# Altium footprint library PKY_LIB.PcbLib: 59 footprints (part 4 of 5)
Each footprint in its own frame and in the unit in brackets; x right, y up, seen from the top. Pads: shape width x height; smd on the part's side, far side on the other; paste and mask are expansions set on the pad; w line width, h text height; cw(c..) or ccw(c..) is an arc to the next point about the centre after c.
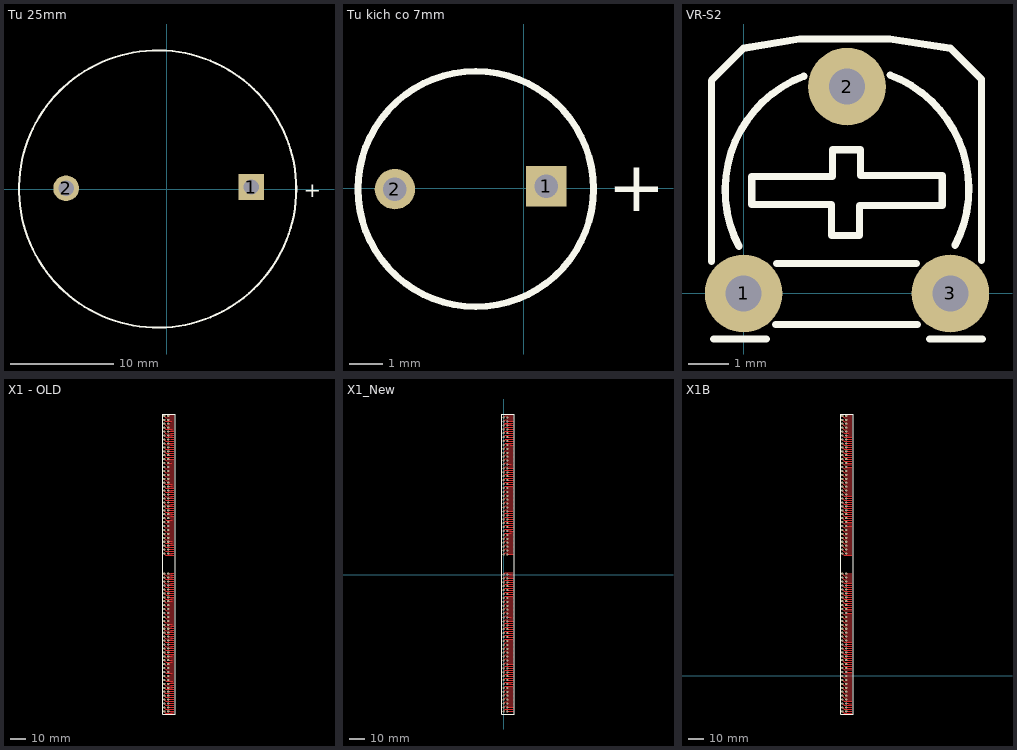
[diagram p3: the footprints below, top view; thin cyan lines are the x and y axes]

## Tu 25mm [mm]
pads (2):
  rect 2.5x2.5 hole 1.5: 1(8.247,0.191)
  round 2.5 hole 1.5: 2(-9.795,0.069)
Top Overlay:
  circle w0.2: c-0.882,0 r13.5
  text "+" at 13.332,-0.789 h1.5

## Tu kich co 7mm [mm]
pads (2):
  rect 1.2x1.2 hole 0.7: 1(0.671,0.067)
  round 1.2 hole 0.7: 2(-3.825,-0.025)
Top Overlay:
  circle w0.2: c-1.423,-0.02 r3.5
  text "+" at 2.495,-0.677 h1.5

## VR-S2 [mil] "Resistor Variable"
height 200
pads (3):
  round 75 hole 35: 1(0,0) 2(100,200) 3(200,0)
Top Overlay:
  lines w7: -31,31 -31,206 0,237 54,246 141.5,246 200,237 230,207 230,32 ; -29,-44 22,-44 ; -4.35,45.34 cw(c100,100) 58.1,210.1 ; 8,113 8,86 85,86 85,56 112,56 112,85 192,85 192,114 113,114 113,139 86,139 86,113 9,113 ; 31,-30 168,-30 ; 32,29 167,29 ; 141.9,211.1 cw(c100,101) 204.35,46.34 ; 180,-44 231,-44

## X1 - OLD [mm]
height 2
pads (144):
  oct 1.5x1.3 hole 1: 1(134.104,-244.479) 2(134.104,-241.939) 3(134.104,-239.399) 4(134.104,-236.859) 5(134.104,-234.319) 6(134.104,-231.779) 7(134.104,-229.239) 8(134.104,-226.699) 9(134.104,-224.159) 10(134.104,-221.619) 11(134.104,-219.079) 12(134.104,-216.539) 13(134.104,-213.999) 14(134.104,-211.459) 15(134.104,-208.919) 16(134.104,-206.379) 17(134.104,-203.839) 18(134.104,-201.299) 19(134.104,-198.759) 20(134.104,-196.219) 21(134.104,-193.679) 22(134.104,-191.139) 23(134.104,-188.599) 24(134.104,-186.059) 25(134.104,-183.519) 26(134.104,-180.979) 27(134.104,-178.439) 28(134.104,-175.899) 29(134.104,-173.359) 30(134.104,-170.819) 31(134.104,-168.279) 32(134.104,-165.739) 33(134.104,-163.199) 34(134.104,-160.659) 35(134.104,-158.119) 36(134.104,-155.579) 37(134.104,-142.579) 38(134.104,-140.039) 39(134.104,-137.499) 40(134.104,-134.959) 41(134.104,-132.419) 42(134.104,-129.879) 43(134.104,-127.339) 44(134.104,-124.799) 45(134.104,-122.259) 46(134.104,-119.719) 47(134.104,-117.179) 48(134.104,-114.639) 49(134.104,-112.099) 50(134.104,-109.559) 51(134.104,-107.019) 52(134.104,-104.479) 53(134.104,-101.939) 54(134.104,-99.399) 55(134.104,-96.859) 56(134.104,-94.319) 57(134.104,-91.779) 58(134.104,-89.239) 59(134.104,-86.699) 60(134.104,-84.159) 61(134.104,-81.619) 62(134.104,-79.079) 63(134.104,-76.539) 64(134.104,-73.999) 65(134.104,-71.459) 66(134.104,-68.919) 67(134.104,-66.379) 68(134.104,-63.839) 69(134.104,-61.299) 70(134.104,-58.759) 71(134.104,-56.219) 72(134.104,-53.679) B1(136.644,-244.479) B2(136.644,-241.939) B3(136.644,-239.399) B4(136.644,-236.859) B5(136.644,-234.319) B6(136.644,-231.779) B7(136.644,-229.239) B8(136.644,-226.699) B9(136.644,-224.159) B10(136.644,-221.619) B11(136.644,-219.079) B12(136.644,-216.539) B13(136.644,-213.999) B14(136.644,-211.459) B15(136.644,-208.919) B16(136.644,-206.379) B17(136.644,-203.839) B18(136.644,-201.299) B19(136.644,-198.759) B20(136.644,-196.219) B21(136.644,-193.679) B22(136.644,-191.139) B23(136.644,-188.599) B24(136.644,-186.059) B25(136.644,-183.519) B26(136.644,-180.979) B27(136.644,-178.439) B28(136.644,-175.899) B29(136.644,-173.359) B30(136.644,-170.819) B31(136.644,-168.279) B32(136.644,-165.739) B33(136.644,-163.199) B34(136.644,-160.659) B35(136.644,-158.119) B36(136.644,-155.579) B37(136.644,-142.579) B38(136.644,-140.039) B39(136.644,-137.499) B40(136.644,-134.959) B41(136.644,-132.419) B42(136.644,-129.879) B43(136.644,-127.339) B44(136.644,-124.799) B45(136.644,-122.259) B46(136.644,-119.719) B47(136.644,-117.179) B48(136.644,-114.639) B49(136.644,-112.099) B50(136.644,-109.559) B51(136.644,-107.019) B52(136.644,-104.479) B53(136.644,-101.939) B54(136.644,-99.399) B55(136.644,-96.859) B56(136.644,-94.319) B57(136.644,-91.779) B58(136.644,-89.239) B59(136.644,-86.699) B60(136.644,-84.159) B61(136.644,-81.619) B62(136.644,-79.079) B63(136.644,-76.539) B64(136.644,-73.999) B65(136.644,-71.459) B66(136.644,-68.919) B67(136.644,-66.379) B68(136.644,-63.839) B69(136.644,-61.299) B70(136.644,-58.759) B71(136.644,-56.219) B72(136.644,-53.679)
Top Layer:
  lines w0.3: 133.769,-86.765 133.904,-86.9 134.85,-87.846 138.933,-87.846 139.015,-87.846 ; 133.772,-56.232 133.932,-56.392 134.853,-57.313 138.918,-57.313 139.018,-57.313 ; 133.805,-188.616 133.946,-188.757 134.886,-189.697 139.051,-189.697 ; 133.808,-158.083 133.974,-158.249 134.889,-159.164 139.054,-159.164 ; 133.812,-91.886 133.905,-91.979 134.893,-92.967 139.058,-92.967 ; 133.815,-61.353 133.933,-61.471 134.896,-62.434 139.061,-62.434 ; 133.817,-186.335 133.823,-186.341 134.898,-187.416 139.063,-187.416 ; 133.818,-96.851 134.899,-97.932 139.064,-97.932 ; 133.82,-155.802 134.104,-155.802 134.21,-155.802 135.291,-156.883 139.066,-156.883 ; 133.83,-94.57 134.104,-94.57 134.201,-94.57 135.282,-95.651 139.076,-95.651 ; 133.848,-193.737 133.947,-193.836 134.929,-194.818 138.929,-194.818 139.094,-194.818 ; 133.851,-163.204 133.975,-163.328 134.932,-164.285 139.046,-164.285 139.097,-164.285 ; 133.854,-198.702 134.008,-198.856 134.935,-199.783 138.918,-199.783 139.1,-199.783 ; 133.86,-191.456 134.941,-192.537 139.106,-192.537 ; 133.861,-101.972 133.966,-102.077 134.942,-103.053 136.644,-103.053 139.107,-103.053 ; 133.863,-160.923 134.944,-162.004 139.109,-162.004 ; 133.866,-196.421 133.884,-196.439 134.947,-197.502 139.05,-197.502 139.112,-197.502 ; 133.897,-203.823 134.009,-203.935 134.978,-204.904 138.279,-204.904 138.931,-204.904 139.143,-204.904 ; 133.909,-201.542 134.99,-202.623 139.155,-202.623 ; 133.951,-66.284 134.075,-66.408 135.305,-67.638 139.105,-67.638 139.197,-67.638 ; 133.963,-64.003 135.044,-65.084 138.279,-65.084 138.289,-65.084 138.467,-65.084 139.209,-65.084 ; 133.976,-127.421 133.999,-127.444 135.057,-128.502 138.279,-128.502 139.222,-128.502 ; 133.987,-168.135 134.118,-168.266 134.131,-168.279 135.341,-169.489 139.233,-169.489 ; 133.988,-125.14 134.847,-125.999 139.234,-125.999 ; 133.994,-71.405 134.076,-71.487 135.075,-72.486 139.056,-72.486 139.24,-72.486 ; 133.999,-165.854 135.08,-166.935 139.245,-166.935 ; 134,-76.37 134.137,-76.507 135.394,-77.764 139.246,-77.764 ; 134.006,-69.124 135.087,-70.205 139.252,-70.205 ; 134.012,-229.272 135.093,-230.353 139.258,-230.353 ; 134.012,-74.089 134.013,-74.09 135.093,-75.17 139.209,-75.17 139.258,-75.17 ; 134.019,-132.542 135.1,-133.623 139.237,-133.623 139.265,-133.623 ; 134.021,-107.009 135.102,-108.09 139.267,-108.09 ; 134.024,-226.991 134.883,-227.85 139.27,-227.85 ; 134.025,-137.507 134.061,-137.543 135.106,-138.588 139.271,-138.588 ; 134.03,-173.256 135.111,-174.337 139.276,-174.337 ; 134.031,-130.261 134.772,-131.002 139.277,-131.002 ; 134.033,-104.728 135.114,-105.809 139.279,-105.809 ; 134.036,-178.221 135.43,-179.615 139.282,-179.615 ; 134.037,-135.226 134.883,-136.072 139.283,-136.072 ; 134.042,-170.975 135.123,-172.056 139.288,-172.056 ; 134.043,-81.491 134.138,-81.586 135.368,-82.816 139.289,-82.816 ; 134.048,-175.94 135.129,-177.021 139.294,-177.021 ; 134.055,-234.393 135.136,-235.474 139.301,-235.474 ; 134.055,-79.21 135.136,-80.291 139.301,-80.291 ; 134.057,-208.86 134.11,-208.913 135.138,-209.941 138.279,-209.941 139.303,-209.941 ; 134.061,-239.358 134.103,-239.4 135.142,-240.439 139.307,-240.439 ; 134.064,-112.13 135.145,-113.211 139.31,-113.211 ; 134.067,-232.112 134.808,-232.853 139.313,-232.853 ; 134.068,-142.628 135.149,-143.709 139.314,-143.709 ; 134.069,-206.579 135.15,-207.66 138.889,-207.66 139.315,-207.66 ; 134.07,-117.095 135.151,-118.176 139.316,-118.176 ; 134.073,-237.077 134.919,-237.923 139.319,-237.923 ; 134.076,-109.849 135.157,-110.93 139.322,-110.93 ; 134.079,-183.342 134.18,-183.443 135.404,-184.667 139.325,-184.667 ; 134.08,-140.347 134.941,-141.208 139.326,-141.208 ; 134.082,-114.814 135.163,-115.895 139.328,-115.895 ; 134.091,-181.061 135.172,-182.142 139.337,-182.142 ; 134.1,-213.981 134.111,-213.992 135.181,-215.062 139.346,-215.062 ; 134.104,-244.479 135.185,-245.56 139.35,-245.56 ; 134.106,-218.946 135.187,-220.027 139.352,-220.027 ; 134.112,-211.7 135.193,-212.781 139.358,-212.781 ; 134.113,-122.216 134.13,-122.233 135.194,-123.297 139.233,-123.297 139.359,-123.297 ; 134.116,-242.198 134.977,-243.059 139.362,-243.059 ; 134.118,-216.665 135.199,-217.746 139.364,-217.746 ; 134.125,-119.935 135.206,-121.016 139.371,-121.016 ; 134.149,-224.067 135.23,-225.148 139.395,-225.148 ; 134.161,-221.786 135.242,-222.867 139.407,-222.867 ; 134.174,-53.951 135.036,-54.813 139.03,-54.813 ; 134.259,-99.691 135.118,-100.55 136.644,-100.55 136.654,-100.55 136.832,-100.55 139.119,-100.55 ; 134.279,-89.605 135.1,-90.426 139.07,-90.426 ; 134.296,-59.072 135.377,-60.153 139.073,-60.153 ; 134.357,-84.484 135.197,-85.324 138.705,-85.324 138.727,-85.324 139.027,-85.324 ; 136.342,-208.972 136.342,-208.919 136.342,-208.737 ; 136.349,-186.168 136.349,-186.059 136.349,-185.826 ; 136.442,-86.514 136.644,-86.514 138.968,-86.514 139.039,-86.514 ; 136.478,-188.365 136.644,-188.365 138.972,-188.365 139.075,-188.365 ; 136.485,-91.635 136.644,-91.635 139.014,-91.635 139.082,-91.635 ; 136.485,-56.279 136.644,-56.279 139.082,-56.279 ; 136.494,-229.425 136.494,-229.013 ; 136.521,-193.486 136.644,-193.486 139.118,-193.486 ; 136.521,-158.13 136.644,-158.13 138.97,-158.13 139.118,-158.13 ; 136.528,-142.59 136.644,-142.59 139.338,-142.59 ; 136.53,-96.818 136.644,-96.818 139.035,-96.818 139.127,-96.818 ; 136.548,-61.28 136.644,-61.28 138.279,-61.28 139.145,-61.28 ; 136.553,-101.906 136.644,-101.906 136.654,-101.906 136.832,-101.906 139.15,-101.906 ; 136.564,-244.125 136.564,-244.441 136.644,-244.441 136.722,-244.441 139.374,-244.441 ; 136.566,-198.669 136.644,-198.669 139.163,-198.669 ; 136.565,-84.165 136.644,-84.165 139.051,-84.165 ; 136.568,-53.694 136.644,-53.694 139.054,-53.694 ; 136.576,-94.338 136.644,-94.338 139.062,-94.338 ; 136.584,-163.131 136.644,-163.131 138.717,-163.131 139.181,-163.131 ; 136.589,-203.757 136.644,-203.757 139.186,-203.757 ; 136.601,-186.016 136.644,-186.016 139.087,-186.016 ; 136.604,-155.545 136.644,-155.545 139.09,-155.545 ; 136.608,-89.09 136.644,-89.09 138.279,-89.09 139.094,-89.09 ; 136.612,-196.189 136.644,-196.189 139.098,-196.189 ; 136.63,-58.696 136.644,-58.696 139.116,-58.696 ; 136.644,-190.941 139.13,-190.941 ; 136.649,-66.376 138.806,-66.376 138.944,-66.376 138.954,-66.376 139.131,-66.376 139.246,-66.376 ; 136.651,-81.534 139.248,-81.534 ; 136.657,-99.176 139.143,-99.176 ; 136.665,-76.52 139.262,-76.52 ; 136.666,-160.547 139.152,-160.547 ; 136.667,-127.299 138.279,-127.299 139.264,-127.299 ; 136.685,-168.227 139.282,-168.227 ; 136.687,-183.385 138.908,-183.385 139.284,-183.385 ; 136.693,-201.027 139.17,-201.027 139.179,-201.027 ; 136.692,-132.291 139.289,-132.291 ; 136.698,-137.256 139.295,-137.256 ; 136.701,-178.371 139.088,-178.371 139.298,-178.371 ; 136.703,-229.15 139.3,-229.15 ; 136.717,-71.399 139.314,-71.399 ; 136.723,-106.907 139.32,-106.907 ; 136.728,-234.142 139.325,-234.142 ; 136.731,-109.482 139.217,-109.482 ; 136.734,-239.107 139.331,-239.107 ; 136.747,-63.757 139.233,-63.757 ; 136.753,-173.25 139.35,-173.25 ; 136.755,-112.009 139.352,-112.009 ; 136.759,-208.758 139.356,-208.758 ; 136.762,-117.029 138.279,-117.029 138.826,-117.029 139.359,-117.029 ; 136.767,-211.333 139.253,-211.333 ; 136.772,-124.625 139.258,-124.625 ; 136.783,-165.608 138.842,-165.608 139.269,-165.608 ; 136.786,-122.188 138.717,-122.188 139.383,-122.188 ; 136.791,-213.86 139.388,-213.86 ; 136.798,-218.88 139.395,-218.88 ; 136.808,-226.476 139.294,-226.476 ; 136.815,-129.746 138.886,-129.746 139.301,-129.746 ; 136.82,-73.941 139.306,-73.941 ; 136.821,-134.711 139.307,-134.711 ; 136.822,-224.039 139.419,-224.039 ; 136.826,-170.705 139.312,-170.705 ; 136.835,-104.454 139.321,-104.454 ; 136.851,-231.597 139.337,-231.597 ; 136.856,-175.792 138.742,-175.792 139.342,-175.792 ; 136.857,-236.562 139.343,-236.562 ; 136.864,-139.832 138.763,-139.832 139.35,-139.832 ; 136.864,-78.965 139.35,-78.965 ; 136.871,-206.305 138.969,-206.305 139.357,-206.305 ; 136.878,-236.625 136.644,-236.859 136.898,-236.605 ; 136.884,-114.502 138.279,-114.502 139.296,-114.502 139.37,-114.502 ; 136.9,-241.683 139.386,-241.683 ; 136.9,-180.816 139.302,-180.816 139.317,-180.816 139.386,-180.816 ; 136.92,-216.353 139.406,-216.353 ; 136.927,-119.587 138.279,-119.587 138.915,-119.587 139.275,-119.587 139.413,-119.587 ; 136.963,-221.438 139.449,-221.438
  lines w0.8: 138.279,-245.522 140.279,-245.522 ; 138.279,-244.253 140.279,-244.253 ; 138.279,-242.984 140.279,-242.984 ; 138.279,-241.715 140.279,-241.715 ; 138.279,-240.446 140.279,-240.446 ; 138.279,-239.176 140.279,-239.176 ; 138.279,-237.907 140.279,-237.907 ; 138.279,-236.638 140.279,-236.638 ; 138.279,-235.369 140.279,-235.369 ; 138.279,-234.1 140.279,-234.1 ; 138.279,-232.831 140.279,-232.831 ; 138.279,-231.562 140.279,-231.562 ; 138.279,-230.293 140.279,-230.293 ; 138.279,-229.024 140.279,-229.024 ; 138.279,-227.755 140.279,-227.755 ; 138.279,-226.486 140.279,-226.486 ; 138.279,-225.217 140.279,-225.217 ; 138.279,-223.948 140.279,-223.948 ; 138.279,-222.679 140.279,-222.679 ; 138.279,-221.41 140.279,-221.41 ; 138.279,-220.141 140.279,-220.141 ; 138.279,-218.872 140.279,-218.872 ; 138.279,-217.603 140.279,-217.603 ; 138.279,-216.334 140.279,-216.334 ; 138.279,-215.065 140.279,-215.065 ; 138.279,-213.796 139.58,-213.796 140.279,-213.796 ; 138.279,-212.527 140.279,-212.527 ; 138.279,-211.258 139.253,-211.258 140.279,-211.258 ; 138.279,-209.989 138.289,-209.989 138.467,-209.989 139.362,-209.989 139.372,-209.989 139.54,-209.989 139.55,-209.989 139.842,-209.989 139.852,-209.989 140.02,-209.989 140.03,-209.989 140.279,-209.989 ; 138.279,-208.72 140.279,-208.72 ; 138.279,-207.451 138.889,-207.451 138.899,-207.451 139.076,-207.451 139.55,-207.451 139.56,-207.451 139.728,-207.451 139.738,-207.451 140.279,-207.451 ; 138.279,-206.182 138.969,-206.182 138.979,-206.182 139.156,-206.182 140.279,-206.182 ; 138.279,-204.913 138.931,-204.913 138.941,-204.913 139.118,-204.913 140.279,-204.913 ; 138.279,-203.643 140.279,-203.643 ; 138.279,-202.374 139.568,-202.374 139.578,-202.374 139.755,-202.374 140.279,-202.374 ; 138.279,-201.105 139.17,-201.105 139.18,-201.105 139.358,-201.105 140.279,-201.105 ; 138.279,-199.836 138.918,-199.836 138.927,-199.836 139.105,-199.836 140.279,-199.836 ; 138.279,-198.567 139.261,-198.567 139.271,-198.567 139.448,-198.567 140.279,-198.567 ; 138.279,-197.298 139.05,-197.298 139.06,-197.298 139.237,-197.298 140.279,-197.298 ; 138.279,-196.029 139.247,-196.029 139.257,-196.029 139.434,-196.029 140.279,-196.029 ; 138.279,-194.76 138.929,-194.76 138.939,-194.76 139.116,-194.76 140.279,-194.76 ; 138.279,-193.491 139.391,-193.491 139.401,-193.491 139.579,-193.491 140.279,-193.491 ; 138.279,-192.222 139.086,-192.222 139.096,-192.222 139.273,-192.222 140.279,-192.222 ; 138.279,-190.953 139.282,-190.953 139.292,-190.953 139.469,-190.953 140.279,-190.953 ; 138.279,-189.684 139.188,-189.684 139.198,-189.684 139.375,-189.684 139.704,-189.684 139.714,-189.684 139.881,-189.684 139.891,-189.684 140.279,-189.684 ; 138.279,-188.415 138.972,-188.415 138.982,-188.415 139.16,-188.415 139.718,-188.415 139.727,-188.415 139.895,-188.415 139.905,-188.415 140.279,-188.415 ; 138.279,-187.146 139.504,-187.146 139.514,-187.146 139.691,-187.146 140.279,-187.146 ; 138.279,-185.877 139.087,-185.877 139.506,-185.877 139.516,-185.877 139.694,-185.877 140.279,-185.877 ; 138.279,-184.608 139.617,-184.608 139.627,-184.608 139.804,-184.608 140.279,-184.608 ; 138.279,-183.339 138.908,-183.339 139.358,-183.339 139.368,-183.339 139.546,-183.339 140.279,-183.339 ; 138.279,-182.07 140.279,-182.07 ; 138.279,-180.801 139.302,-180.801 140.279,-180.801 ; 138.279,-179.532 140.279,-179.532 ; 138.279,-178.263 139.088,-178.263 139.298,-178.263 140.279,-178.263 ; 138.279,-176.994 140.279,-176.994 ; 138.279,-175.725 138.742,-175.725 139.457,-175.725 140.279,-175.725 ; 138.279,-174.456 140.279,-174.456 ; 138.279,-173.187 139.707,-173.187 139.717,-173.187 139.895,-173.187 140.279,-173.187 ; 138.279,-171.918 139.288,-171.918 139.347,-171.918 140.279,-171.918 ; 138.279,-170.649 139.717,-170.649 139.727,-170.649 139.904,-170.649 140.279,-170.649 ; 138.279,-169.38 140.279,-169.38 ; 138.279,-168.111 140.279,-168.111 ; 138.279,-166.841 139.411,-166.841 140.279,-166.841 ; 138.279,-165.572 138.842,-165.572 140.279,-165.572 ; 138.279,-164.303 139.046,-164.303 139.439,-164.303 139.449,-164.303 139.626,-164.303 140.279,-164.303 ; 138.279,-163.034 138.717,-163.034 138.727,-163.034 138.904,-163.034 140.279,-163.034 ; 138.279,-161.765 139.426,-161.765 139.436,-161.765 139.613,-161.765 140.279,-161.765 ; 138.279,-160.496 139.152,-160.496 139.162,-160.496 139.34,-160.496 140.279,-160.496 ; 138.279,-159.227 139.518,-159.227 139.528,-159.227 139.706,-159.227 140.279,-159.227 ; 138.279,-157.958 138.97,-157.958 140.279,-157.958 ; 138.279,-156.689 140.279,-156.689 ; 138.279,-155.42 140.279,-155.42 ; 138.279,-143.722 140.279,-143.722 ; 138.279,-142.453 140.279,-142.453 ; 138.279,-141.184 139.645,-141.184 140.279,-141.184 ; 138.279,-139.915 138.763,-139.915 140.279,-139.915 ; 138.279,-138.646 139.552,-138.646 140.279,-138.646 ; 138.279,-137.376 140.279,-137.376 ; 138.279,-136.107 139.377,-136.107 140.279,-136.107 ; 138.279,-134.838 139.576,-134.838 140.279,-134.838 ; 138.279,-133.569 139.237,-133.569 140.279,-133.569 ; 138.279,-132.3 139.527,-132.3 140.279,-132.3 ; 138.279,-131.031 139.277,-131.031 139.927,-131.031 140.279,-131.031 ; 138.279,-129.762 138.886,-129.762 139.422,-129.762 140.279,-129.762 ; 138.279,-128.493 139.222,-128.493 140.279,-128.493 ; 138.279,-127.224 140.279,-127.224 ; 138.279,-125.955 140.279,-125.955 ; 138.279,-124.686 140.279,-124.686 ; 138.279,-123.417 139.233,-123.417 139.243,-123.417 139.421,-123.417 140.279,-123.417 ; 138.279,-122.148 138.717,-122.148 139.783,-122.148 140.279,-122.148 ; 138.279,-120.879 140.279,-120.879 ; 138.279,-119.61 138.289,-119.61 138.467,-119.61 138.915,-119.61 138.925,-119.61 139.093,-119.61 139.103,-119.61 139.252,-119.61 139.262,-119.61 139.429,-119.61 139.439,-119.61 140.279,-119.61 ; 138.279,-118.341 140.279,-118.341 ; 138.279,-117.072 138.826,-117.072 139.359,-117.072 139.858,-117.072 140.279,-117.072 ; 138.279,-115.803 140.279,-115.803 ; 138.279,-114.534 139.296,-114.534 140.279,-114.534 ; 138.279,-113.265 140.279,-113.265 ; 138.279,-111.996 140.279,-111.996 ; 138.279,-110.727 140.279,-110.727 ; 138.279,-109.458 140.279,-109.458 ; 138.279,-108.189 140.279,-108.189 ; 138.279,-106.92 140.279,-106.92 ; 138.279,-105.651 140.279,-105.651 ; 138.279,-104.382 140.279,-104.382 ; 138.279,-103.113 140.279,-103.113 ; 138.279,-101.843 140.279,-101.843 ; 138.279,-100.574 140.279,-100.574 ; 138.279,-99.305 140.279,-99.305 ; 138.279,-98.036 140.279,-98.036 ; 138.279,-96.767 139.035,-96.767 139.552,-96.767 140.279,-96.767 ; 138.279,-95.498 140.279,-95.498 ; 138.279,-94.229 139.21,-94.229 139.507,-94.229 140.279,-94.229 ; 138.279,-92.96 139.085,-92.96 139.833,-92.96 140.279,-92.96 ; 138.279,-91.691 139.014,-91.691 140.279,-91.691 ; 138.279,-90.422 139.07,-90.422 139.739,-90.422 140.279,-90.422 ; 138.279,-89.153 139.094,-89.153 140.279,-89.153 ; 138.279,-87.884 138.933,-87.884 139.74,-87.884 139.755,-87.884 140.279,-87.884 ; 138.279,-86.615 138.968,-86.615 139.583,-86.615 140.279,-86.615 ; 138.279,-85.346 138.705,-85.346 140.279,-85.346 ; 138.279,-84.077 139.318,-84.077 139.328,-84.077 139.505,-84.077 140.279,-84.077 ; 138.279,-82.808 139.435,-82.808 140.279,-82.808 ; 138.279,-81.539 139.407,-81.539 140.279,-81.539 ; 138.279,-80.27 140.279,-80.27 ; 138.279,-79.001 140.279,-79.001 ; 138.279,-77.732 139.714,-77.732 140.279,-77.732 ; 138.279,-76.463 139.262,-76.463 140.279,-76.463 ; 138.279,-75.194 139.209,-75.194 139.787,-75.194 140.279,-75.194 ; 138.279,-73.925 139.597,-73.925 139.606,-73.925 139.784,-73.925 140.279,-73.925 ; 138.279,-72.656 139.056,-72.656 139.24,-72.656 140.279,-72.656 ; 138.279,-71.387 139.786,-71.387 140.279,-71.387 ; 138.279,-70.118 139.252,-70.118 139.738,-70.118 139.748,-70.118 139.926,-70.118 140.279,-70.118 ; 138.279,-68.849 138.289,-68.849 138.457,-68.849 138.467,-68.849 138.808,-68.849 138.818,-68.849 138.985,-68.849 138.995,-68.849 139.276,-68.849 139.286,-68.849 139.416,-68.849 139.426,-68.849 139.454,-68.849 139.464,-68.849 139.593,-68.849 139.603,-68.849 140.279,-68.849 ; 138.279,-67.58 139.105,-67.58 139.692,-67.58 139.702,-67.58 139.879,-67.58 140.279,-67.58 ; 138.279,-66.311 138.806,-66.311 138.816,-66.311 138.944,-66.311 138.954,-66.311 138.993,-66.311 139.121,-66.311 139.131,-66.311 139.55,-66.311 140.279,-66.311 ; 138.279,-65.041 138.289,-65.041 138.467,-65.041 140.279,-65.041 ; 138.279,-63.772 139.565,-63.772 139.575,-63.772 139.752,-63.772 140.279,-63.772 ; 138.279,-62.503 139.445,-62.503 140.279,-62.503 ; 138.279,-61.234 139.487,-61.234 139.497,-61.234 139.675,-61.234 140.279,-61.234 ; 138.279,-59.965 139.367,-59.965 139.377,-59.965 139.554,-59.965 140.279,-59.965 ; 138.279,-58.696 140.279,-58.696 ; 138.279,-57.427 138.918,-57.427 139.602,-57.427 140.279,-57.427 ; 138.279,-56.158 140.279,-56.158 ; 138.279,-54.889 140.279,-54.889 ; 138.279,-53.62 140.279,-53.62
Top Overlay:
  lines w0.254: 133.206,-52.476 140.61,-52.476
  lines w0.3: 133.206,-52.476 133.206,-246.183 140.61,-246.183 ; 140.415,-246.183 141.039,-246.183 141.039,-52.476 140.61,-52.476

## X1_New [mm]
pads (144):
  oct 1.5x1.3 hole 1: 1(-0.004,102.181) 2(-0.004,99.641) 3(-0.004,97.101) 4(-0.004,94.561) 5(-0.004,92.021) 6(-0.004,89.481) 7(-0.004,86.941) 8(-0.004,84.401) 9(-0.004,81.861) 10(-0.004,79.321) 11(-0.004,76.781) 12(-0.004,74.241) 13(-0.004,71.701) 14(-0.004,69.161) 15(-0.004,66.621) 16(-0.004,64.081) 17(-0.004,61.541) 18(-0.004,59.001) 19(-0.004,56.461) 20(-0.004,53.921) 21(-0.004,51.381) 22(-0.004,48.841) 23(-0.004,46.301) 24(-0.004,43.761) 25(-0.004,41.221) 26(-0.004,38.681) 27(-0.004,36.141) 28(-0.004,33.601) 29(-0.004,31.061) 30(-0.004,28.521) 31(-0.004,25.981) 32(-0.004,23.441) 33(-0.004,20.901) 34(-0.004,18.361) 35(-0.004,15.821) 36(-0.004,13.281) 37(-0.004,0.281) 38(-0.004,-2.259) 39(-0.004,-4.799) 40(-0.004,-7.339) 41(-0.004,-9.879) 42(-0.004,-12.419) 43(-0.004,-14.959) 44(-0.004,-17.499) 45(-0.004,-20.039) 46(-0.004,-22.579) 47(-0.004,-25.119) 48(-0.004,-27.659) 49(-0.004,-30.199) 50(-0.004,-32.739) 51(-0.004,-35.279) 52(-0.004,-37.819) 53(-0.004,-40.359) 54(-0.004,-42.899) 55(-0.004,-45.439) 56(-0.004,-47.979) 57(-0.004,-50.519) 58(-0.004,-53.059) 59(-0.004,-55.599) 60(-0.004,-58.139) 61(-0.004,-60.679) 62(-0.004,-63.219) 63(-0.004,-65.759) 64(-0.004,-68.299) 65(-0.004,-70.839) 66(-0.004,-73.379) 67(-0.004,-75.919) 68(-0.004,-78.459) 69(-0.004,-80.999) 70(-0.004,-83.539) 71(-0.004,-86.079) 72(-0.004,-88.619) B1(2.536,102.181) B2(2.536,99.641) B3(2.536,97.101) B4(2.536,94.561) B5(2.536,92.021) B6(2.536,89.481) B7(2.536,86.941) B8(2.536,84.401) B9(2.536,81.861) B10(2.536,79.321) B11(2.536,76.781) B12(2.536,74.241) B13(2.536,71.701) B14(2.536,69.161) B15(2.536,66.621) B16(2.536,64.081) B17(2.536,61.541) B18(2.536,59.001) B19(2.536,56.461) B20(2.536,53.921) B21(2.536,51.381) B22(2.536,48.841) B23(2.536,46.301) B24(2.536,43.761) B25(2.536,41.221) B26(2.536,38.681) B27(2.536,36.141) B28(2.536,33.601) B29(2.536,31.061) B30(2.536,28.521) B31(2.536,25.981) B32(2.536,23.441) B33(2.536,20.901) B34(2.536,18.361) B35(2.536,15.821) B36(2.536,13.281) B37(2.536,0.281) B38(2.536,-2.259) B39(2.536,-4.799) B40(2.536,-7.339) B41(2.536,-9.879) B42(2.536,-12.419) B43(2.536,-14.959) B44(2.536,-17.499) B45(2.536,-20.039) B46(2.536,-22.579) B47(2.536,-25.119) B48(2.536,-27.659) B49(2.536,-30.199) B50(2.536,-32.739) B51(2.536,-35.279) B52(2.536,-37.819) B53(2.536,-40.359) B54(2.536,-42.899) B55(2.536,-45.439) B56(2.536,-47.979) B57(2.536,-50.519) B58(2.536,-53.059) B59(2.536,-55.599) B60(2.536,-58.139) B61(2.536,-60.679) B62(2.536,-63.219) B63(2.536,-65.759) B64(2.536,-68.299) B65(2.536,-70.839) B66(2.536,-73.379) B67(2.536,-75.919) B68(2.536,-78.459) B69(2.536,-80.999) B70(2.536,-83.539) B71(2.536,-86.079) B72(2.536,-88.619)
Top Layer:
  lines w0.3: -0.339,69.095 -0.205,68.961 ; -0.336,99.628 -0.177,99.469 ; -0.303,-32.756 -0.162,-32.897 ; -0.3,-2.223 -0.134,-2.389 ; -0.296,63.974 -0.204,63.882 ; -0.293,94.507 -0.176,94.39 ; -0.291,-30.475 -0.286,-30.48 ; -0.288,0.058 -0.004,0.058 0.102,0.058 ; -0.278,61.29 -0.004,61.29 0.093,61.29 ; -0.26,-37.877 -0.161,-37.976 ; -0.257,-7.344 -0.133,-7.468 ; -0.254,-42.842 -0.101,-42.995 ; -0.247,53.888 -0.142,53.783 ; -0.242,-40.561 -0.224,-40.579 ; -0.211,-47.963 -0.1,-48.074 ; -0.157,89.576 -0.033,89.452 ; -0.132,28.439 -0.109,28.416 ; -0.121,-12.275 0.009,-12.405 0.023,-12.419 ; -0.114,84.455 -0.032,84.373 ; -0.108,79.49 0.028,79.354 ; -0.096,81.771 -0.095,81.77 ; -0.083,18.353 -0.048,18.318 ; -0.065,74.369 0.029,74.275 ; -0.051,-53 0.002,-53.053 ; -0.047,-83.498 -0.005,-83.54 ; -0.029,-27.482 0.072,-27.583 ; -0.016,38.77 1.141,39.927 4.84,39.927 ; -0.016,41.31 1.141,42.467 4.84,42.467 ; -0.008,-58.121 0.003,-58.132 ; 0.005,33.644 0.022,33.627 ; 0.066,-88.549 1.223,-87.392 4.922,-87.392 ; 0.066,-86.009 1.223,-84.852 4.922,-84.852 ; 0.066,-83.469 1.223,-82.312 4.922,-82.312 ; 0.066,-80.929 1.223,-79.772 4.922,-79.772 ; 0.066,-78.389 1.223,-77.232 4.922,-77.232 ; 0.066,-75.849 1.223,-74.692 4.922,-74.692 ; 0.066,-73.309 1.223,-72.152 4.922,-72.152 ; 0.066,-70.769 1.223,-69.612 4.922,-69.612 ; 0.066,-68.229 1.223,-67.072 4.922,-67.072 ; 0.066,-65.689 1.223,-64.532 4.922,-64.532 ; 0.066,-63.149 1.223,-61.992 4.922,-61.992 ; 0.066,-60.609 1.223,-59.452 4.922,-59.452 ; 0.066,-58.069 1.223,-56.912 4.922,-56.912 ; 0.066,-55.529 1.223,-54.372 4.922,-54.372 ; 0.066,-52.989 1.223,-51.832 4.922,-51.832 ; 0.066,-50.449 1.223,-49.292 4.922,-49.292 ; 0.066,-47.909 1.223,-46.752 4.922,-46.752 ; 0.066,-45.369 1.223,-44.212 4.922,-44.212 ; 0.066,-42.829 1.223,-41.672 4.922,-41.672 ; 0.066,-40.289 1.223,-39.132 4.922,-39.132 ; 0.066,-37.749 1.223,-36.592 4.922,-36.592 ; 0.066,-35.209 1.223,-34.052 4.922,-34.052 ; 0.066,-32.669 1.223,-31.512 4.922,-31.512 ; 0.066,-30.129 1.223,-28.972 4.922,-28.972 ; 0.066,-27.589 1.223,-26.432 4.922,-26.432 ; 0.066,-25.049 1.223,-23.892 4.922,-23.892 ; 0.066,-22.509 1.223,-21.352 4.922,-21.352 ; 0.066,-19.969 1.223,-18.812 4.922,-18.812 ; 0.066,-17.429 1.223,-16.272 4.922,-16.272 ; 0.066,-14.889 1.223,-13.732 4.922,-13.732 ; 0.066,-12.349 1.223,-11.192 4.922,-11.192 ; 0.066,-9.809 1.223,-8.652 4.922,-8.652 ; 0.066,-7.269 1.223,-6.112 4.922,-6.112 ; 0.066,-4.729 1.223,-3.572 4.922,-3.572 ; 0.066,-2.2 1.223,-1.043 4.922,-1.043 ; 0.066,0.34 1.223,1.497 4.922,1.497 ; 0.066,13.34 1.223,14.497 4.922,14.497 ; 0.066,15.88 1.223,17.037 4.922,17.037 ; 0.066,18.431 1.223,19.588 4.922,19.588 ; 0.066,20.971 1.223,22.128 4.922,22.128 ; 0.066,23.511 1.223,24.668 4.922,24.668 ; 0.066,26.051 1.223,27.208 4.922,27.208 ; 0.066,28.591 1.223,29.748 4.922,29.748 ; 0.066,31.131 1.223,32.288 4.922,32.288 ; 0.066,33.671 1.223,34.828 4.922,34.828 ; 0.066,36.211 1.223,37.368 4.922,37.368 ; 0.066,43.831 1.223,44.988 4.922,44.988 ; 0.066,46.371 1.223,47.528 4.922,47.528 ; 0.066,48.911 1.223,50.068 4.922,50.068 ; 0.066,51.451 1.223,52.608 4.922,52.608 ; 0.066,54.024 1.223,55.181 4.922,55.181 ; 0.066,56.564 1.223,57.721 4.922,57.721 ; 0.066,59.071 1.223,60.228 4.922,60.228 ; 0.066,61.611 1.223,62.768 4.922,62.768 ; 0.066,64.151 1.223,65.308 4.922,65.308 ; 0.066,66.691 1.223,67.848 4.922,67.848 ; 0.066,69.231 1.223,70.388 4.922,70.388 ; 0.066,71.771 1.223,72.928 4.922,72.928 ; 0.066,74.311 1.223,75.468 4.922,75.468 ; 0.066,76.851 1.223,78.008 4.922,78.008 ; 0.066,79.391 1.223,80.548 4.922,80.548 ; 0.066,81.931 1.223,83.088 4.922,83.088 ; 0.066,89.551 1.223,90.708 4.922,90.708 ; 0.066,92.091 1.223,93.248 4.922,93.248 ; 0.066,94.65 1.223,95.807 4.922,95.807 ; 0.066,97.171 1.223,98.328 4.922,98.328 ; 0.066,97.19 1.223,98.347 4.922,98.347 ; 0.066,99.711 1.223,100.868 4.922,100.868 ; 0.066,101.909 0.066,102.251 1.223,103.408 4.922,103.408 ; 0.103,84.421 1.26,85.578 4.959,85.578 ; 0.103,86.961 1.26,88.118 4.959,88.118 ; 2.234,-53.112 2.234,-53.059 2.234,-52.877 ; 2.241,-30.308 2.241,-30.199 2.241,-29.966 ; 2.334,69.346 2.536,69.346 ; 2.37,-32.505 2.536,-32.505 ; 2.377,64.225 2.536,64.225 ; 2.377,99.581 2.536,99.581 ; 2.386,-73.565 2.386,-73.153 ; 2.413,-37.626 2.536,-37.626 ; 2.413,-2.27 2.536,-2.27 ; 2.42,13.27 2.536,13.27 ; 2.422,59.042 2.536,59.042 ; 2.44,94.58 2.536,94.58 ; 2.445,53.954 2.536,53.954 2.546,53.954 2.723,53.954 ; 2.454,38.718 4.864,38.718 ; 2.454,41.258 4.864,41.258 ; 2.456,-88.265 2.456,-88.581 2.536,-88.581 2.613,-88.581 ; 2.457,71.695 2.536,71.695 ; 2.458,-42.809 2.536,-42.809 ; 2.46,102.166 2.535,102.198 4.945,102.198 ; 2.468,61.522 2.536,61.522 ; 2.476,-7.271 2.536,-7.271 ; 2.481,-47.897 2.536,-47.897 ; 2.493,-30.156 2.536,-30.156 ; 2.496,0.315 2.536,0.315 ; 2.5,66.77 2.536,66.77 ; 2.504,-40.329 2.536,-40.329 ; 2.522,97.164 2.536,97.164 ; 2.535,-88.602 4.945,-88.602 ; 2.535,-86.062 4.945,-86.062 ; 2.535,-83.522 4.945,-83.522 ; 2.535,-80.982 4.945,-80.982 ; 2.535,-78.442 4.945,-78.442 ; 2.535,-75.902 4.945,-75.902 ; 2.535,-73.362 4.945,-73.362 ; 2.535,-70.822 4.945,-70.822 ; 2.535,-68.282 4.945,-68.282 ; 2.535,-65.742 4.945,-65.742 ; 2.535,-63.202 4.945,-63.202 ; 2.535,-60.662 4.945,-60.662 ; 2.535,-58.122 4.945,-58.122 ; 2.535,-55.582 4.945,-55.582 ; 2.535,-53.042 4.945,-53.042 ; 2.535,-50.502 4.945,-50.502 ; 2.535,-47.962 4.945,-47.962 ; 2.535,-45.422 4.945,-45.422 ; 2.535,-42.882 4.945,-42.882 ; 2.535,-40.342 4.945,-40.342 ; 2.535,-37.802 4.945,-37.802 ; 2.535,-35.262 4.945,-35.262 ; 2.535,-32.722 4.945,-32.722 ; 2.535,-30.182 4.945,-30.182 ; 2.535,-27.642 4.945,-27.642 ; 2.535,-25.102 4.945,-25.102 ; 2.535,-22.562 4.945,-22.562 ; 2.535,-20.022 4.945,-20.022 ; 2.535,-17.482 4.945,-17.482 ; 2.535,-14.942 4.945,-14.942 ; 2.535,-12.402 4.945,-12.402 ; 2.535,-9.862 4.945,-9.862 ; 2.535,-7.322 4.945,-7.322 ; 2.535,-4.782 4.945,-4.782 ; 2.535,-2.253 4.945,-2.253 ; 2.535,0.287 4.945,0.287 ; 2.535,13.287 4.945,13.287 ; 2.535,15.827 4.945,15.827 ; 2.535,18.378 4.945,18.378 ; 2.535,20.918 4.945,20.918 ; 2.535,23.458 4.945,23.458 ; 2.535,25.998 4.945,25.998 ; 2.535,28.538 4.945,28.538 ; 2.535,31.078 4.945,31.078 ; 2.535,33.618 4.945,33.618 ; 2.535,36.158 4.945,36.158 ; 2.535,43.778 4.945,43.778 ; 2.535,46.318 4.945,46.318 ; 2.535,48.858 4.945,48.858 ; 2.535,51.398 4.945,51.398 ; 2.535,53.971 4.945,53.971 ; 2.535,56.511 4.945,56.511 ; 2.535,59.018 4.945,59.018 ; 2.535,61.558 4.945,61.558 ; 2.535,64.098 4.945,64.098 ; 2.535,66.638 4.945,66.638 ; 2.535,69.178 4.945,69.178 ; 2.535,71.718 4.945,71.718 ; 2.535,74.258 4.945,74.258 ; 2.535,76.798 4.945,76.798 ; 2.535,79.338 4.945,79.338 ; 2.535,81.878 4.945,81.878 ; 2.535,89.498 4.945,89.498 ; 2.535,92.038 4.945,92.038 ; 2.535,94.597 4.945,94.597 ; 2.535,97.118 4.945,97.118 ; 2.535,97.137 4.945,97.137 ; 2.535,99.658 4.945,99.658 ; 2.573,84.368 4.983,84.368 ; 2.573,86.908 4.983,86.908 ; 2.77,-80.765 2.536,-80.999 2.79,-80.745
  lines w0.8: 4.035,39.94 6.035,39.94 ; 4.035,42.48 6.035,42.48 ; 4.078,38.694 6.078,38.694 ; 4.078,41.234 6.078,41.234 ; 4.117,-87.38 6.117,-87.38 ; 4.117,-84.84 6.117,-84.84 ; 4.117,-82.3 6.117,-82.3 ; 4.117,-79.76 6.117,-79.76 ; 4.117,-77.22 6.117,-77.22 ; 4.117,-74.68 6.117,-74.68 ; 4.117,-72.14 6.117,-72.14 ; 4.117,-69.6 6.117,-69.6 ; 4.117,-67.06 6.117,-67.06 ; 4.117,-64.52 6.117,-64.52 ; 4.117,-61.98 6.117,-61.98 ; 4.117,-59.44 6.117,-59.44 ; 4.117,-56.9 6.117,-56.9 ; 4.117,-54.36 6.117,-54.36 ; 4.117,-51.82 6.117,-51.82 ; 4.117,-49.28 6.117,-49.28 ; 4.117,-46.74 6.117,-46.74 ; 4.117,-44.2 6.117,-44.2 ; 4.117,-41.66 6.117,-41.66 ; 4.117,-39.12 6.117,-39.12 ; 4.117,-36.58 6.117,-36.58 ; 4.117,-34.04 6.117,-34.04 ; 4.117,-31.5 6.117,-31.5 ; 4.117,-28.96 6.117,-28.96 ; 4.117,-26.42 6.117,-26.42 ; 4.117,-23.88 6.117,-23.88 ; 4.117,-21.34 6.117,-21.34 ; 4.117,-18.8 6.117,-18.8 ; 4.117,-16.26 6.117,-16.26 ; 4.117,-13.72 6.117,-13.72 ; 4.117,-11.18 6.117,-11.18 ; 4.117,-8.64 6.117,-8.64 ; 4.117,-6.1 6.117,-6.1 ; 4.117,-3.56 6.117,-3.56 ; 4.117,-1.031 6.117,-1.031 ; 4.117,1.509 6.117,1.509 ; 4.117,14.509 6.117,14.509 ; 4.117,17.049 6.117,17.049 ; 4.117,19.6 6.117,19.6 ; 4.117,22.14 6.117,22.14 ; 4.117,24.68 6.117,24.68 ; 4.117,27.22 6.117,27.22 ; 4.117,29.76 6.117,29.76 ; 4.117,32.3 6.117,32.3 ; 4.117,34.84 6.117,34.84 ; 4.117,37.38 6.117,37.38 ; 4.117,45 6.117,45 ; 4.117,47.54 6.117,47.54 ; 4.117,50.08 6.117,50.08 ; 4.117,52.62 6.117,52.62 ; 4.117,55.193 6.117,55.193 ; 4.117,57.733 6.117,57.733 ; 4.117,60.24 6.117,60.24 ; 4.117,62.78 6.117,62.78 ; 4.117,65.32 6.117,65.32 ; 4.117,67.86 6.117,67.86 ; 4.117,70.4 6.117,70.4 ; 4.117,72.94 6.117,72.94 ; 4.117,75.48 6.117,75.48 ; 4.117,78.02 6.117,78.02 ; 4.117,80.56 6.117,80.56 ; 4.117,83.1 6.117,83.1 ; 4.117,90.72 6.117,90.72 ; 4.117,93.26 6.117,93.26 ; 4.117,95.819 6.117,95.819 ; 4.117,98.34 6.117,98.34 ; 4.117,98.359 6.117,98.359 ; 4.117,100.88 6.117,100.88 ; 4.117,103.42 6.117,103.42 ; 4.154,85.59 6.154,85.59 ; 4.154,88.13 6.154,88.13 ; 4.159,-88.626 6.159,-88.626 ; 4.159,-86.086 6.159,-86.086 ; 4.159,-83.546 6.159,-83.546 ; 4.159,-81.006 6.159,-81.006 ; 4.159,-78.466 6.159,-78.466 ; 4.159,-75.926 6.159,-75.926 ; 4.159,-73.386 6.159,-73.386 ; 4.159,-70.846 6.159,-70.846 ; 4.159,-68.306 6.159,-68.306 ; 4.159,-65.766 6.159,-65.766 ; 4.159,-63.226 6.159,-63.226 ; 4.159,-60.686 6.159,-60.686 ; 4.159,-58.146 6.159,-58.146 ; 4.159,-55.606 6.159,-55.606 ; 4.159,-53.066 6.159,-53.066 ; 4.159,-50.526 6.159,-50.526 ; 4.159,-47.986 6.159,-47.986 ; 4.159,-45.446 6.159,-45.446 ; 4.159,-42.906 6.159,-42.906 ; 4.159,-40.366 6.159,-40.366 ; 4.159,-37.826 6.159,-37.826 ; 4.159,-35.286 6.159,-35.286 ; 4.159,-32.746 6.159,-32.746 ; 4.159,-30.206 6.159,-30.206 ; 4.159,-27.666 6.159,-27.666 ; 4.159,-25.126 6.159,-25.126 ; 4.159,-22.586 6.159,-22.586 ; 4.159,-20.046 6.159,-20.046 ; 4.159,-17.506 6.159,-17.506 ; 4.159,-14.966 6.159,-14.966 ; 4.159,-12.426 6.159,-12.426 ; 4.159,-9.886 6.159,-9.886 ; 4.159,-7.346 6.159,-7.346 ; 4.159,-4.806 6.159,-4.806 ; 4.159,-2.277 6.159,-2.277 ; 4.159,0.263 6.159,0.263 ; 4.159,13.263 6.159,13.263 ; 4.159,15.803 6.159,15.803 ; 4.159,18.354 6.159,18.354 ; 4.159,20.894 6.159,20.894 ; 4.159,23.434 6.159,23.434 ; 4.159,25.974 6.159,25.974 ; 4.159,28.514 6.159,28.514 ; 4.159,31.054 6.159,31.054 ; 4.159,33.594 6.159,33.594 ; 4.159,36.134 6.159,36.134 ; 4.159,43.754 6.159,43.754 ; 4.159,46.294 6.159,46.294 ; 4.159,48.834 6.159,48.834 ; 4.159,51.374 6.159,51.374 ; 4.159,53.947 6.159,53.947 ; 4.159,56.487 6.159,56.487 ; 4.159,58.994 6.159,58.994 ; 4.159,61.534 6.159,61.534 ; 4.159,64.074 6.159,64.074 ; 4.159,66.614 6.159,66.614 ; 4.159,69.154 6.159,69.154 ; 4.159,71.694 6.159,71.694 ; 4.159,74.234 6.159,74.234 ; 4.159,76.774 6.159,76.774 ; 4.159,79.314 6.159,79.314 ; 4.159,81.854 6.159,81.854 ; 4.159,89.474 6.159,89.474 ; 4.159,92.014 6.159,92.014 ; 4.159,94.573 6.159,94.573 ; 4.159,97.094 6.159,97.094 ; 4.159,97.113 6.159,97.113 ; 4.159,99.634 6.159,99.634 ; 4.159,102.174 6.159,102.174 ; 4.197,84.344 6.197,84.344 ; 4.197,86.884 6.197,86.884
Top Overlay:
  lines w0.254: -1.191,104.499 6.958,104.499
  lines w0.3: -1.191,104.499 -1.191,-90.323 6.502,-90.323 ; 6.307,-90.323 6.931,-90.323 6.931,103.384 6.931,104.492

## X1B [mm]
pads (144):
  oct 1.5x1.3 hole 1: 1(139.447,-22.888) 2(139.447,-20.348) 3(139.447,-17.808) 4(139.447,-15.268) 5(139.447,-12.728) 6(139.447,-10.188) 7(139.447,-7.648) 8(139.447,-5.108) 9(139.447,-2.568) 10(139.447,-0.028) 11(139.447,2.512) 12(139.447,5.052) 13(139.447,7.592) 14(139.447,10.132) 15(139.447,12.672) 16(139.447,15.212) 17(139.447,17.752) 18(139.447,20.292) 19(139.447,22.832) 20(139.447,25.372) 21(139.447,27.912) 22(139.447,30.452) 23(139.447,32.992) 24(139.447,35.532) 25(139.447,38.072) 26(139.447,40.612) 27(139.447,43.152) 28(139.447,45.692) 29(139.447,48.232) 30(139.447,50.772) 31(139.447,53.312) 32(139.447,55.852) 33(139.447,58.392) 34(139.447,60.932) 35(139.447,63.472) 36(139.447,66.012) 37(139.447,79.012) 38(139.447,81.552) 39(139.447,84.092) 40(139.447,86.632) 41(139.447,89.172) 42(139.447,91.712) 43(139.447,94.252) 44(139.447,96.792) 45(139.447,99.332) 46(139.447,101.872) 47(139.447,104.412) 48(139.447,106.952) 49(139.447,109.492) 50(139.447,112.032) 51(139.447,114.572) 52(139.447,117.112) 53(139.447,119.652) 54(139.447,122.192) 55(139.447,124.732) 56(139.447,127.272) 57(139.447,129.812) 58(139.447,132.352) 59(139.447,134.892) 60(139.447,137.432) 61(139.447,139.972) 62(139.447,142.512) 63(139.447,145.052) 64(139.447,147.592) 65(139.447,150.132) 66(139.447,152.672) 67(139.447,155.212) 68(139.447,157.752) 69(139.447,160.292) 70(139.447,162.832) 71(139.447,165.372) 72(139.447,167.912) B1(141.987,-22.888) B2(141.987,-20.348) B3(141.987,-17.808) B4(141.987,-15.268) B5(141.987,-12.728) B6(141.987,-10.188) B7(141.987,-7.648) B8(141.987,-5.108) B9(141.987,-2.568) B10(141.987,-0.028) B11(141.987,2.512) B12(141.987,5.052) B13(141.987,7.592) B14(141.987,10.132) B15(141.987,12.672) B16(141.987,15.212) B17(141.987,17.752) B18(141.987,20.292) B19(141.987,22.832) B20(141.987,25.372) B21(141.987,27.912) B22(141.987,30.452) B23(141.987,32.992) B24(141.987,35.532) B25(141.987,38.072) B26(141.987,40.612) B27(141.987,43.152) B28(141.987,45.692) B29(141.987,48.232) B30(141.987,50.772) B31(141.987,53.312) B32(141.987,55.852) B33(141.987,58.392) B34(141.987,60.932) B35(141.987,63.472) B36(141.987,66.012) B37(141.987,79.012) B38(141.987,81.552) B39(141.987,84.092) B40(141.987,86.632) B41(141.987,89.172) B42(141.987,91.712) B43(141.987,94.252) B44(141.987,96.792) B45(141.987,99.332) B46(141.987,101.872) B47(141.987,104.412) B48(141.987,106.952) B49(141.987,109.492) B50(141.987,112.032) B51(141.987,114.572) B52(141.987,117.112) B53(141.987,119.652) B54(141.987,122.192) B55(141.987,124.732) B56(141.987,127.272) B57(141.987,129.812) B58(141.987,132.352) B59(141.987,134.892) B60(141.987,137.432) B61(141.987,139.972) B62(141.987,142.512) B63(141.987,145.052) B64(141.987,147.592) B65(141.987,150.132) B66(141.987,152.672) B67(141.987,155.212) B68(141.987,157.752) B69(141.987,160.292) B70(141.987,162.832) B71(141.987,165.372) B72(141.987,167.912)
Top Layer:
  lines w0.254: 139.447,-20.348 139.447,-20.385 140.629,-21.568 143.458,-21.568 ; 139.447,-17.808 140.671,-19.032 143.475,-19.032 ; 139.447,-15.305 140.629,-16.488 143.458,-16.488 ; 139.447,-12.728 140.671,-13.952 143.475,-13.952 ; 139.447,-10.225 140.629,-11.408 143.458,-11.408 ; 139.447,-7.648 140.671,-8.872 143.475,-8.872 ; 139.447,-5.145 140.629,-6.328 143.458,-6.328 ; 139.447,-2.568 140.671,-3.792 143.475,-3.792 ; 139.447,-0.065 140.629,-1.248 143.458,-1.248 ; 139.447,2.512 140.671,1.288 143.475,1.288 ; 139.447,5.015 140.629,3.832 143.458,3.832 ; 139.447,7.592 140.671,6.368 143.475,6.368 ; 139.447,10.095 140.629,8.912 143.458,8.912 ; 139.447,12.672 140.671,11.448 143.475,11.448 ; 139.447,15.175 140.629,13.992 143.458,13.992 ; 139.447,17.752 140.671,16.528 143.475,16.528 ; 139.447,20.255 140.629,19.072 143.458,19.072 ; 139.447,22.832 140.671,21.608 143.475,21.608 ; 139.447,25.335 140.629,24.152 143.458,24.152 ; 139.447,27.912 140.671,26.688 143.475,26.688 ; 139.447,30.415 140.629,29.232 143.458,29.232 ; 139.447,32.992 140.671,31.768 143.475,31.768 ; 139.447,35.495 140.629,34.312 143.458,34.312 ; 139.447,38.072 140.671,36.848 143.475,36.848 ; 139.447,40.575 140.629,39.392 143.458,39.392 ; 139.447,43.152 140.671,41.928 143.475,41.928 ; 139.447,45.655 140.629,44.472 143.458,44.472 ; 139.447,48.232 140.671,47.008 143.475,47.008 ; 139.447,50.735 140.629,49.552 143.458,49.552 ; 139.447,53.312 140.671,52.088 143.475,52.088 ; 139.447,55.815 140.629,54.632 143.458,54.632 ; 139.447,58.392 140.671,57.168 143.475,57.168 ; 139.447,60.895 140.629,59.712 143.458,59.712 ; 139.447,63.472 140.671,62.248 143.475,62.248 ; 139.447,65.975 140.629,64.792 143.458,64.792 ; 139.447,79.012 140.671,77.788 143.475,77.788 ; 139.447,81.515 140.629,80.332 143.458,80.332 ; 139.447,84.092 140.671,82.868 143.475,82.868 ; 139.447,86.595 140.629,85.412 143.458,85.412 ; 139.447,89.172 140.671,87.948 143.475,87.948 ; 139.447,91.675 140.629,90.492 143.458,90.492 ; 139.447,94.252 140.671,93.028 143.475,93.028 ; 139.447,96.755 140.629,95.572 143.458,95.572 ; 139.447,96.792 140.671,95.568 143.475,95.568 ; 139.447,99.295 140.629,98.112 143.458,98.112 ; 139.447,101.872 140.671,100.648 143.475,100.648 ; 139.447,104.375 140.629,103.192 143.458,103.192 ; 139.447,104.412 140.671,103.188 143.475,103.188 ; 139.447,106.915 140.629,105.732 143.458,105.732 ; 139.447,109.492 140.671,108.268 143.475,108.268 ; 139.447,111.995 140.629,110.812 143.458,110.812 ; 139.447,114.572 140.671,113.348 143.475,113.348 ; 139.447,117.075 140.629,115.892 143.458,115.892 ; 139.447,119.652 140.671,118.428 143.475,118.428 ; 139.447,122.155 140.629,120.972 143.458,120.972 ; 139.447,124.732 140.671,123.508 143.475,123.508 ; 139.447,127.235 140.629,126.052 143.458,126.052 ; 139.447,129.812 140.671,128.588 143.475,128.588 ; 139.447,132.315 140.629,131.132 143.458,131.132 ; 139.447,134.892 140.671,133.668 143.475,133.668 ; 139.447,137.395 140.629,136.212 143.458,136.212 ; 139.447,139.972 140.671,138.748 143.475,138.748 ; 139.447,142.475 140.629,141.292 143.458,141.292 ; 139.447,145.052 140.671,143.828 143.475,143.828 ; 139.447,147.555 140.629,146.372 143.458,146.372 ; 139.447,150.132 140.671,148.908 143.475,148.908 ; 139.447,152.635 140.629,151.452 143.458,151.452 ; 139.447,155.212 140.671,153.988 143.475,153.988 ; 139.447,157.715 140.629,156.532 143.458,156.532 ; 139.447,160.292 140.671,159.068 143.475,159.068 ; 139.447,162.795 140.629,161.612 143.458,161.612 ; 139.447,165.372 140.671,164.148 143.475,164.148 ; 139.447,167.875 140.629,166.692 143.458,166.692 ; 139.551,-22.888 139.447,-22.888 ; 139.745,-22.888 139.447,-22.888 ; 141.903,147.592 143.654,147.6 ; 141.987,-22.888 143.636,-22.888 ; 141.987,-20.348 143.59,-20.348 ; 141.987,-17.808 143.636,-17.808 ; 141.987,-15.268 143.59,-15.268 ; 141.987,-12.728 143.636,-12.728 ; 141.987,-10.188 143.59,-10.188 ; 141.987,-7.648 143.636,-7.648 ; 141.987,-5.108 143.59,-5.108 ; 141.987,-2.568 143.636,-2.568 ; 141.987,-0.028 143.59,-0.028 ; 141.987,2.512 143.636,2.512 ; 141.987,5.052 143.59,5.052 ; 141.987,7.592 143.636,7.592 ; 141.987,10.132 143.59,10.132 ; 141.987,12.672 143.636,12.672 ; 141.987,15.212 143.59,15.212 ; 141.987,17.752 143.636,17.752 ; 141.987,20.292 143.59,20.292 ; 141.987,22.832 143.636,22.832 ; 141.987,25.372 143.59,25.372 ; 141.987,27.912 143.636,27.912 ; 141.987,30.452 143.59,30.452 ; 141.987,32.992 143.636,32.992 ; 141.987,35.532 143.59,35.532 ; 141.987,38.072 143.636,38.072 ; 141.987,40.612 143.59,40.612 ; 141.987,43.152 143.636,43.152 ; 141.987,45.692 143.59,45.692 ; 141.987,48.232 143.636,48.232 ; 141.987,50.772 143.59,50.772 ; 141.987,53.312 143.636,53.312 ; 141.987,55.852 143.59,55.852 ; 141.987,58.392 143.636,58.392 ; 141.987,60.932 143.59,60.932 ; 141.987,63.472 143.636,63.472 ; 141.987,66.012 143.59,66.012 ; 141.987,79.012 143.636,79.012 ; 141.987,81.552 143.59,81.552 ; 141.987,84.092 143.636,84.092 ; 141.987,86.632 143.59,86.632 ; 141.987,89.172 143.636,89.172 ; 141.987,91.712 143.59,91.712 ; 141.987,94.252 143.636,94.252 ; 141.987,99.332 143.59,99.332 ; 141.987,101.872 143.636,101.872 ; 141.987,106.952 143.59,106.952 ; 141.987,109.492 143.636,109.492 ; 141.987,112.032 143.59,112.032 ; 141.987,114.572 143.636,114.572 ; 141.987,117.112 143.59,117.112 ; 141.987,119.652 143.636,119.652 ; 141.987,122.192 143.59,122.192 ; 141.987,124.732 143.636,124.732 ; 141.987,127.272 143.59,127.272 ; 141.987,129.812 143.636,129.812 ; 141.987,132.352 143.59,132.352 ; 141.987,134.892 143.636,134.892 ; 141.987,137.432 143.59,137.432 ; 141.987,139.972 143.636,139.972 ; 141.987,142.512 143.59,142.512 ; 141.987,145.052 143.636,145.052 ; 141.987,150.132 143.636,150.132 ; 141.987,152.672 143.59,152.672 ; 141.987,155.212 143.636,155.212 ; 141.987,157.752 143.59,157.752 ; 141.987,160.292 143.636,160.292 ; 141.987,162.832 143.59,162.832 ; 141.987,165.372 143.636,165.372 ; 141.987,167.912 143.59,167.912 ; 143.475,-24.112 140.671,-24.112 139.447,-22.888 ; 143.59,96.792 141.987,96.792 143.636,96.792 ; 143.59,104.412 141.987,104.412 143.636,104.412
  lines w0.8: 143.579,-24.112 145.579,-24.112 ; 143.579,-19.032 145.579,-19.032 ; 143.579,-13.952 145.579,-13.952 ; 143.579,-8.872 145.579,-8.872 ; 143.579,-3.792 145.579,-3.792 ; 143.579,1.288 145.579,1.288 ; 143.579,6.368 145.579,6.368 ; 143.579,11.448 145.579,11.448 ; 143.579,16.528 145.579,16.528 ; 143.579,21.608 145.579,21.608 ; 143.579,26.688 145.579,26.688 ; 143.579,31.768 145.579,31.768 ; 143.579,36.848 145.579,36.848 ; 143.579,41.928 145.579,41.928 ; 143.579,47.008 145.579,47.008 ; 143.579,52.088 145.579,52.088 ; 143.579,57.168 145.579,57.168 ; 143.579,62.248 145.579,62.248 ; 143.579,77.788 145.579,77.788 ; 143.579,82.868 145.579,82.868 ; 143.579,87.948 145.579,87.948 ; 143.579,93.028 145.579,93.028 ; 143.579,95.568 145.579,95.568 ; 143.579,100.648 145.579,100.648 ; 143.579,103.188 145.579,103.188 ; 143.579,108.268 145.579,108.268 ; 143.579,113.348 145.579,113.348 ; 143.579,118.428 145.579,118.428 ; 143.579,123.508 145.579,123.508 ; 143.579,128.588 145.579,128.588 ; 143.579,133.668 145.579,133.668 ; 143.579,138.748 145.579,138.748 ; 143.579,143.828 145.579,143.828 ; 143.579,148.908 145.579,148.908 ; 143.579,153.988 145.579,153.988 ; 143.579,159.068 145.579,159.068 ; 143.579,164.148 145.579,164.148 ; 143.63,-21.58 145.63,-21.58 ; 143.63,-16.5 145.63,-16.5 ; 143.63,-11.42 145.63,-11.42 ; 143.63,-6.34 145.63,-6.34 ; 143.63,-1.26 145.63,-1.26 ; 143.63,3.82 145.63,3.82 ; 143.63,8.9 145.63,8.9 ; 143.63,13.98 145.63,13.98 ; 143.63,19.06 145.63,19.06 ; 143.63,24.14 145.63,24.14 ; 143.63,29.22 145.63,29.22 ; 143.63,34.3 145.63,34.3 ; 143.63,39.38 145.63,39.38 ; 143.63,44.46 145.63,44.46 ; 143.63,49.54 145.63,49.54 ; 143.63,54.62 145.63,54.62 ; 143.63,59.7 145.63,59.7 ; 143.63,64.78 145.63,64.78 ; 143.63,80.32 145.63,80.32 ; 143.63,85.4 145.63,85.4 ; 143.63,90.48 145.63,90.48 ; 143.63,95.56 145.63,95.56 ; 143.63,98.1 145.63,98.1 ; 143.63,103.18 145.63,103.18 ; 143.63,105.72 145.63,105.72 ; 143.63,110.8 145.63,110.8 ; 143.63,115.88 145.63,115.88 ; 143.63,120.96 145.63,120.96 ; 143.63,126.04 145.63,126.04 ; 143.63,131.12 145.63,131.12 ; 143.63,136.2 145.63,136.2 ; 143.63,141.28 145.63,141.28 ; 143.63,146.36 145.63,146.36 ; 143.63,151.44 145.63,151.44 ; 143.63,156.52 145.63,156.52 ; 143.63,161.6 145.63,161.6 ; 143.63,166.68 145.63,166.68 ; 143.641,-22.892 145.641,-22.892 ; 143.641,-17.812 145.641,-17.812 ; 143.641,-12.732 145.641,-12.732 ; 143.641,-7.652 145.641,-7.652 ; 143.641,-2.572 145.641,-2.572 ; 143.641,2.508 145.641,2.508 ; 143.641,7.588 145.641,7.588 ; 143.641,12.668 145.641,12.668 ; 143.641,17.748 145.641,17.748 ; 143.641,22.828 145.641,22.828 ; 143.641,27.908 145.641,27.908 ; 143.641,32.988 145.641,32.988 ; 143.641,38.068 145.641,38.068 ; 143.641,43.148 145.641,43.148 ; 143.641,48.228 145.641,48.228 ; 143.641,53.308 145.641,53.308 ; 143.641,58.388 145.641,58.388 ; 143.641,63.468 145.641,63.468 ; 143.641,79.008 145.641,79.008 ; 143.641,84.088 145.641,84.088 ; 143.641,89.168 145.641,89.168 ; 143.641,94.248 145.641,94.248 ; 143.641,96.788 145.641,96.788 ; 143.641,101.868 145.641,101.868 ; 143.641,104.408 145.641,104.408 ; 143.641,109.488 145.641,109.488 ; 143.641,114.568 145.641,114.568 ; 143.641,119.648 145.641,119.648 ; 143.641,124.728 145.641,124.728 ; 143.641,129.808 145.641,129.808 ; 143.641,134.888 145.641,134.888 ; 143.641,139.968 145.641,139.968 ; 143.641,145.048 145.641,145.048 ; 143.641,150.128 145.641,150.128 ; 143.641,155.208 145.641,155.208 ; 143.641,160.288 145.641,160.288 ; 143.641,165.368 145.641,165.368 ; 143.654,-20.34 145.654,-20.34 ; 143.654,-15.26 145.654,-15.26 ; 143.654,-10.18 145.654,-10.18 ; 143.654,-5.1 145.654,-5.1 ; 143.654,-0.02 145.654,-0.02 ; 143.654,5.06 145.654,5.06 ; 143.654,10.14 145.654,10.14 ; 143.654,15.22 145.654,15.22 ; 143.654,20.3 145.654,20.3 ; 143.654,25.38 145.654,25.38 ; 143.654,30.46 145.654,30.46 ; 143.654,35.54 145.654,35.54 ; 143.654,40.62 145.654,40.62 ; 143.654,45.7 145.654,45.7 ; 143.654,50.78 145.654,50.78 ; 143.654,55.86 145.654,55.86 ; 143.654,60.94 145.654,60.94 ; 143.654,66.02 145.654,66.02 ; 143.654,81.56 145.654,81.56 ; 143.654,86.64 145.654,86.64 ; 143.654,91.72 145.654,91.72 ; 143.654,96.8 145.654,96.8 ; 143.654,99.34 145.654,99.34 ; 143.654,104.42 145.654,104.42 ; 143.654,106.96 145.654,106.96 ; 143.654,112.04 145.654,112.04 ; 143.654,117.12 145.654,117.12 ; 143.654,122.2 145.654,122.2 ; 143.654,127.28 145.654,127.28 ; 143.654,132.36 145.654,132.36 ; 143.654,137.44 145.654,137.44 ; 143.654,142.52 145.654,142.52 ; 143.654,147.6 145.654,147.6 ; 143.654,152.68 145.654,152.68 ; 143.654,157.76 145.654,157.76 ; 143.654,162.84 145.654,162.84 ; 143.654,167.92 145.654,167.92
Top Overlay:
  lines w0.254: 138.549,169.115 145.953,169.115
  lines w0.3: 138.549,169.115 138.549,-24.592 145.953,-24.592 ; 145.758,-24.592 146.382,-24.592 146.382,169.115 145.953,169.115